# Altium schematic symbol library SCH - DIODES - SCHOTTKY_SDMG0340LC-F.SCHLIB: 1 symbol
Pins are listed as number, name and electrical type; pins without a type are passive.

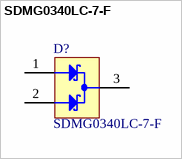
[diagram p0: symbol SDMG0340LC-7-F]

## SDMG0340LC-7-F
designator D?
pins: 1 A, 2 A, 3 K